# Altium schematic symbol library ERJ-2RKF1002X.SchLib: 1 symbol
Pins are listed as number, name and electrical type; pins without a type are passive.

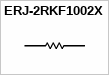
[diagram p0: symbol ERJ-2RKF1002X]

## ERJ-2RKF1002X
designator ?
RES 10K OHM 1/10W 1% 0402 SMD
pins: 1, 2